# Altium schematic symbol library Conn,SD,SMD,Push-Push.Schlib: 1 symbol
Pins are listed as number, name and electrical type; pins without a type are passive.

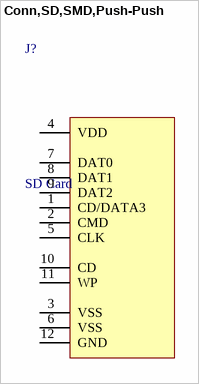
[diagram p0: symbol Conn,SD,SMD,Push-Push]

## Conn,SD,SMD,Push-Push
designator J?, comment SD Card
12 (9 + 3) Position Card Connector Secure Digital - SD Surface Mount Gold
pins: 1 CD/DATA3, 2 CMD, 3 VSS, 4 VDD, 5 CLK, 6 VSS, 7 DAT0, 8 DAT1, 9 DAT2, 10 CD, 11 WP, 12 GND